# Altium integrated library MSASL21GBB5476MTNA01.IntLib: 1 symbol
Pins are listed as number, name and electrical type; pins without a type are passive.

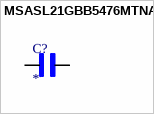
[diagram p0: symbol MSASL21GBB5476MTNA01]

## MSASL21GBB5476MTNA01
designator C?
47 ÂµF Â±20% 10V Ceramic Capacitor X5R 0805 (2012 Metric); MF: Taiyo Yuden; MP: MSASL21GBB5476MTNA01; SnapEDA_Link: https://www.snapeda.com/parts/MSASL21GBB5476MTNA01/Taiyo+Yuden/view-part/?ref=snap; Package: 2012-2 TAIYO; Value: *; Check_prices: https://www.snapeda.com/parts/MSASL21GBB5476MTNA01/Taiyo+Yuden/view-part/?ref=eda
footprint CAPC2012X145N
pins: 1, 2